# Altium footprint library CN_PANASONIC_EVQ-P7.PcbLib: 1 footprints
Each footprint in its own frame and in the unit in brackets; x right, y up, seen from the top. Pads: shape width x height; smd on the part's side, far side on the other; paste and mask are expansions set on the pad; w line width, h text height; cw(c..) or ccw(c..) is an arc to the next point about the centre after c.
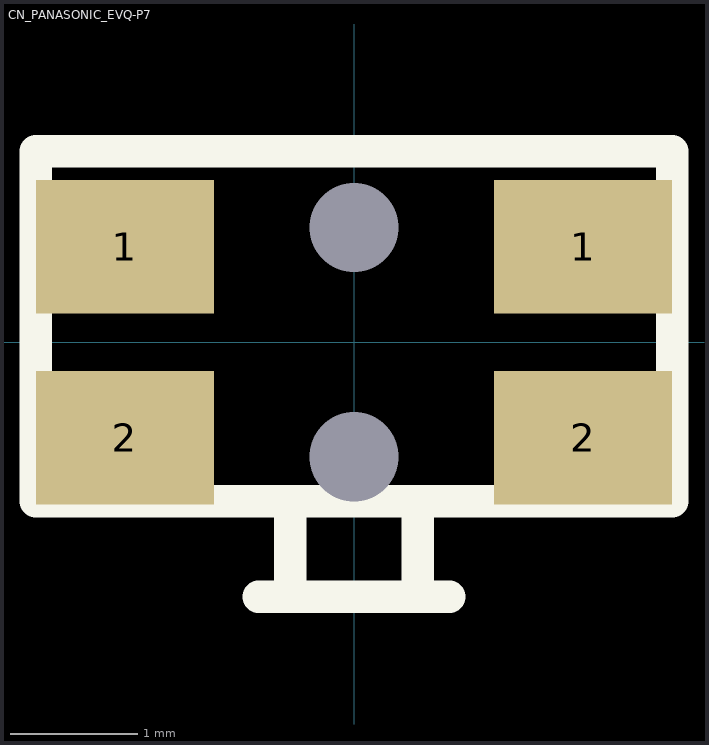
[diagram p0: the footprint, top view; thin cyan lines are the x and y axes]

## CN_PANASONIC_EVQ-P7 [mm]
pads (6):
  rect 1.4x1.05 smd: 1(-1.8,0.75) 1(1.8,0.75) 2(-1.8,-0.75) 2(1.8,-0.75)
  round 0 hole 0.7 unplated: 3(0,-0.9) 3(0,0.9)
Top Overlay:
  lines w0.254: -0.75,-2 0.75,-2 ; -0.5,-2 -0.5,-1.25 ; 0.5,-2 0.5,-1.25 ; -2.5,-1.25 -2.25,-1.25 2.5,-1.25 2.5,1.5 -2.5,1.5 -2.5,-1.25
3D body: height 1.35, standoff 0, extent -2.35,-2.1 2.35,1.45